# Altium schematic symbol library Schlib1.SchLib: 31 symbols
Pins are listed as number, name and electrical type; pins without a type are passive.

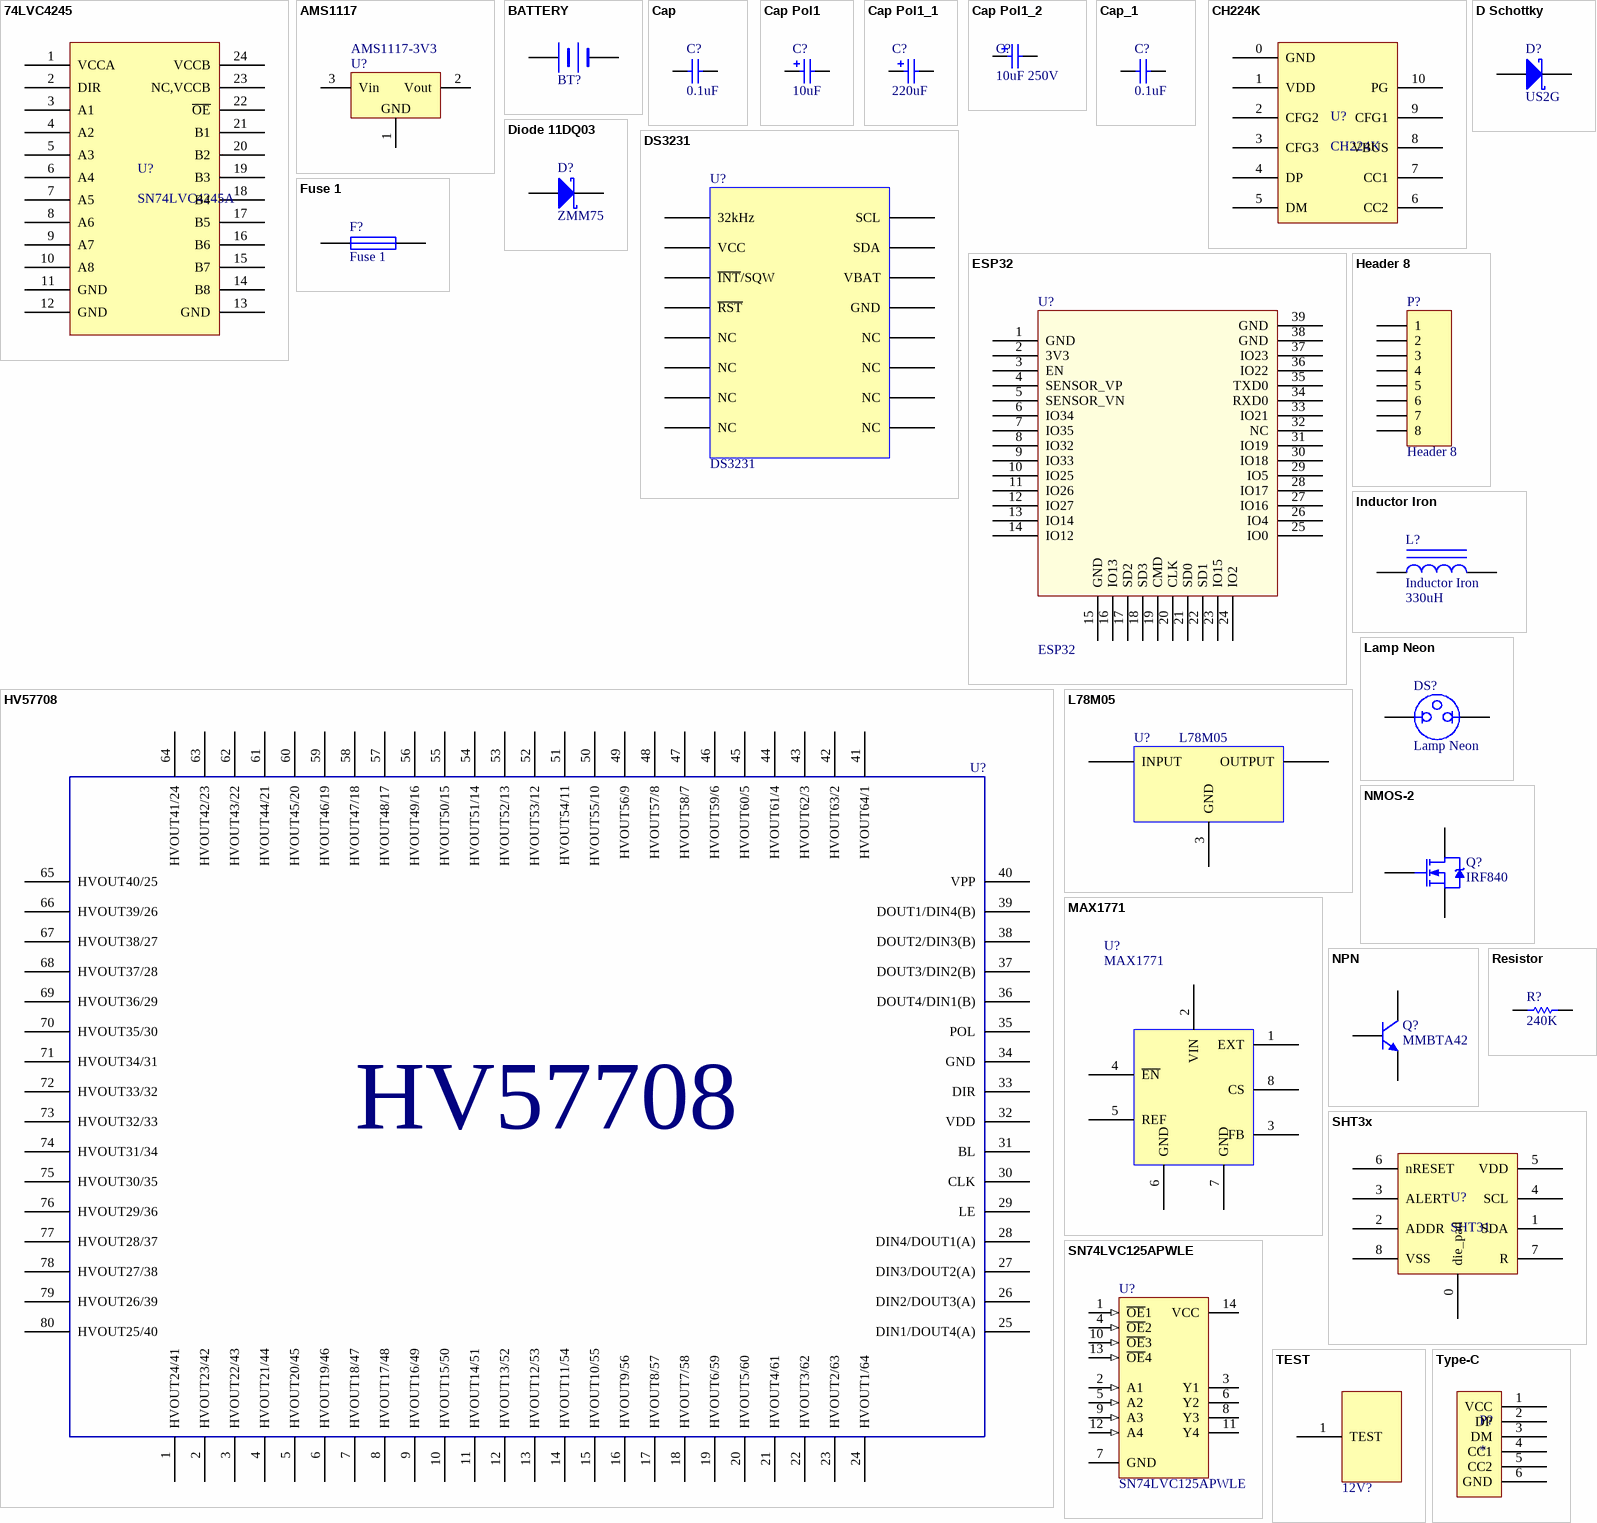
[diagram p0: symbols 74LVC4245 to Type-C]

## 74LVC4245
designator U?, comment SN74LVC4245A
双向电平转换
footprint TSSOP24_N (7.8*6.4*1mm（长宽高）   封装库来自淘宝卖家 ID：黄晶宝石)
pins: 1 VCCA, 2 DIR, 3 A1, 4 A2, 5 A3, 6 A4, 7 A5, 8 A6, 9 A7, 10 A8, 11 GND, 12 GND, 13 GND, 14 B8, 15 B7, 16 B6, 17 B5, 18 B4, 19 B3, 20 B2, 21 B1, 22 ~{OE}, 23 NC,VCCB, 24 VCCB

## AMS1117
designator U?, comment AMS1117-3V3
三端稳压芯片; BOM名称: 稳压芯片; 版权归属: 源创客; 学习资源: www.ooocke.com
footprint SOT223_L (6.4x7x1.6mm(长宽高))
footprint SOT223_M (6.4x7x1.6mm(长宽高))
footprint SOT223_N (6.4x7x1.6mm(长宽高))
footprint SOT89_L (4.6x4.3x1.6mm(长宽高))
footprint SOT89_N (4.6x4.3x1.6mm(长宽高))
footprint SOT89_M (4.6x4.3x1.6mm(长宽高))
pins: 1 GND, 2 Vout, 3 Vin

## BATTERY
designator BT?, comment CR1220 holder  (value not drawn)
footprint BAT1220
pins: 1 +, 2 -
2 alternate drawings of the same symbol

## Cap
designator C?  value 0.1uF  (hidden comment: Cap)
Capacitor; Published: 8-Jun-2000; LatestRevisionDate: 17-Jul-2002; LatestRevisionNote: Re-released for DXP Platform.; PackageReference: RAD-0.3; Publisher: Altium Limited; PackageDescription: Radial Cap, Thru-Hole; 2 Leads; 0.3 in Pin Spacing
footprint C 0805_L (无极性贴片电容                                        淘宝ID:黄晶宝石)
pins: 1, 2

## Cap Pol1
designator C?  value 10uF  (hidden comment: Cap Pol1)
Polarized Capacitor (Radial); Published: 8-Jun-2000; LatestRevisionDate: 17-Jul-2002; LatestRevisionNote: Re-released for DXP Platform.; PackageReference: RB7.6-15; Publisher: Altium Limited
footprint C0603 (Chip Resistor; Body 1.6 x 0.8 mm (LxW typ))
footprint TC3216-1206 (Capacitor, SM Tantalum; Body 3.2 x 1.6 mm (LxW typ))
footprint TC3216-1206 (Capacitor, SM Tantalum; Body 3.2 x 1.6 mm (LxW typ))
footprint C0805 (Chip Resistor; Body 2.0 x 1.3 mm (LxW typ))
footprint C3216
footprint C
pins: 1, 2
1 alternate drawing of the same symbol

## Cap Pol1_1
designator C?, comment value 220uF  (hidden comment: Cap Pol1)
Polarized Capacitor (Radial); Voltage: 16V; Published: 8-Jun-2000; LatestRevisionDate: 17-Jul-2002; LatestRevisionNote: Re-released for DXP Platform.; PackageReference: RB7.6-15; Publisher: Altium Limited; PackageDescription: Polarized Capacitor (Radial); 2 Leads
footprint HONOR_63X77
simulation model CAP (Capacitor)
signal-integrity model Cap Pol
pins: 1, 2
1 alternate drawing of the same symbol

## Cap Pol1_2
designator C?, comment value 10uF 250V  (hidden comment: Cap Pol1)
Polarized Capacitor (Radial); Published: 8-Jun-2000; LatestRevisionDate: 17-Jul-2002; LatestRevisionNote: Re-released for DXP Platform.; PackageReference: RB7.6-15; Publisher: Altium Limited; PackageDescription: Polarized Capacitor (Radial); 2 Leads
footprint C10*10.2
simulation model CAP (Capacitor)
signal-integrity model Cap Pol
pins: 1, 2
1 alternate drawing of the same symbol

## Cap_1
designator C?, comment value 0.1uF  (hidden comment: Cap)
Capacitor; Published: 8-Jun-2000; LatestRevisionDate: 17-Jul-2002; LatestRevisionNote: Re-released for DXP Platform.; PackageReference: RAD-0.3; Publisher: Altium Limited; PackageDescription: Radial Cap, Thru-Hole; 2 Leads; 0.3 in Pin Spacing
footprint C 0805_L (无极性贴片电容                                        淘宝ID:黄晶宝石)
simulation model CAP (Capacitor)
signal-integrity model Cap
footprint 0805 (1/8W)
footprint CAPC1608N (Chip Capacitor, Body 1.6x0.8mm, IPC Medium Density)
pins: 1, 2

## CH224K
designator U?
PD协议受电芯片
pins: 0 GND, 1 VDD, 2 CFG2, 3 CFG3, 4 DP, 5 DM, 6 CC2, 7 CC1, 8 VBUS, 9 CFG1, 10 PG

## D Schottky
designator D?, comment US2G
Schottky Diode; Published: 8-Jun-2000; LatestRevisionDate: 17-Jul-2002; LatestRevisionNote: Re-released for DXP Platform.; PackageReference: SMB; Publisher: Altium Limited; PackageDescription: DO-214-AA/SMB; 2 C-Bend Leads; Body 5.3 x 3.6 mm, inc. leads (LxW); Code_JEDEC: DO-214-AA
simulation model SKYDIODE (Diode)
signal-integrity model D Schottky
footprint SMA (4.5x2.6*2.2mm（长宽高，不包括引脚）)
pins: 1 A, 2 K

## Diode 11DQ03
designator D?, comment ZMM75
Schottky Rectifier; Published: 8-Jun-2000; LatestRevisionDate: 17-Jul-2002; LatestRevisionNote: Re-released for DXP Platform.; DatasheetVersion: Dec-1997; PackageReference: DO-204AL; Publisher: Altium Limited; PackageDescription: Diode, Axial; Body 5.2 x 2.7 mm (LxDia. max), Lead Dia. 0.86 mm (max); Code_JEDEC: DO-204-AL; ComponentLink1Description: Manufacturer Link; ComponentLink1URL: http://www.irf.com/; ComponentLink2Description: Datasheet; ComponentLink2URL: http://www.irf.com/product-info/datasheets/data/11dq03.pdf
footprint LL-34
pins: 1 A, 2 K

## DS3231
designator U?
footprint SOP16_75MM
pins: 1 32kHz, 2 VCC, 3 ~{INT}/SQW, 4 ~{RST}, 5 NC, 6 NC, 7 NC, 8 NC, 9 NC, 10 NC, 11 NC, 12 NC, 13 GND, 14 VBAT, 15 SDA, 16 SCL

## ESP32
designator U?
footprint ESP32
pins: 1 GND, 2 3V3, 3 EN, 4 SENSOR_VP, 5 SENSOR_VN, 6 IO34, 7 IO35, 8 IO32, 9 IO33, 10 IO25, 11 IO26, 12 IO27, 13 IO14, 14 IO12, 15 GND, 16 IO13, 17 SD2, 18 SD3, 19 CMD, 20 CLK, 21 SD0, 22 SD1, 23 IO15, 24 IO2, 25 IO0, 26 IO4, 27 IO16, 28 IO17, 29 IO5, 30 IO18, 31 IO19, 32 NC, 33 IO21, 34 RXD0, 35 TXD0, 36 IO22, 37 IO23, 38 GND, 39 GND

## Fuse 1
designator F?
Fuse; Published: 8-Jun-2000; LatestRevisionDate: 17-Jul-2002; LatestRevisionNote: Re-released for DXP Platform.; PackageReference: PIN-W2/E2.8; Publisher: Altium Limited; PackageDescription: Thru-Hole; 2 Leads
footprint SMD2018P100TF
simulation model FUSE (Spice Subcircuit)
pins: 1, 2

## Header 8
designator P?
Header, 8-Pin; LatestRevisionDate: 17-Jul-2002; LatestRevisionNote: Re-released for DXP Platform.; Publisher: Altium Limited
footprint SIP8
signal-integrity model Connector
pins: 1, 2, 3, 4, 5, 6, 7, 8

## HV57708
designator U?  (value not drawn)
footprint HV57708PG (QFP, 80-Leads, Body 17.40x23.40mm, Pitch 0.80mm, IPC Medium Density)
footprint HV57708PG (QFP, 80-Leads, Body 17.40x23.40mm, Pitch 0.80mm, IPC Medium Density)
pins: 1 HVOUT24/41, 2 HVOUT23/42, 3 HVOUT22/43, 4 HVOUT21/44, 5 HVOUT20/45, 6 HVOUT19/46, 7 HVOUT18/47, 8 HVOUT17/48, 9 HVOUT16/49, 10 HVOUT15/50, 11 HVOUT14/51, 12 HVOUT13/52, 13 HVOUT12/53, 14 HVOUT11/54, 15 HVOUT10/55, 16 HVOUT9/56, 17 HVOUT8/57, 18 HVOUT7/58, 19 HVOUT6/59, 20 HVOUT5/60, 21 HVOUT4/61, 22 HVOUT3/62, 23 HVOUT2/63, 24 HVOUT1/64, 25 DIN1/DOUT4(A), 26 DIN2/DOUT3(A), 27 DIN3/DOUT2(A), 28 DIN4/DOUT1(A), 29 LE, 30 CLK, 31 BL, 32 VDD, 33 DIR, 34 GND, 35 POL, 36 DOUT4/DIN1(B), 37 DOUT3/DIN2(B), 38 DOUT2/DIN3(B), 39 DOUT1/DIN4(B), 40 VPP, 41 HVOUT64/1, 42 HVOUT63/2, 43 HVOUT62/3, 44 HVOUT61/4, 45 HVOUT60/5, 46 HVOUT59/6, 47 HVOUT58/7, 48 HVOUT57/8, 49 HVOUT56/9, 50 HVOUT55/10, 51 HVOUT54/11, 52 HVOUT53/12, 53 HVOUT52/13, 54 HVOUT51/14, 55 HVOUT50/15, 56 HVOUT49/16, 57 HVOUT48/17, 58 HVOUT47/18, 59 HVOUT46/19, 60 HVOUT45/20, 61 HVOUT44/21, 62 HVOUT43/22, 63 HVOUT42/23, 64 HVOUT41/24, 65 HVOUT40/25, 66 HVOUT39/26, 67 HVOUT38/27, 68 HVOUT37/28, 69 HVOUT36/29, 70 HVOUT35/30, 71 HVOUT34/31, 72 HVOUT33/32, 73 HVOUT32/33, 74 HVOUT31/34, 75 HVOUT30/35, 76 HVOUT29/36, 77 HVOUT28/37, 78 HVOUT27/38, 79 HVOUT26/39, 80 HVOUT25/40

## Inductor Iron
designator L?  value 330uH
Magnetic-Core Inductor; Published: 24-Mar-1999; LatestRevisionDate: 17-Jul-2002; LatestRevisionNote: Re-released for DXP Platform.; PackageReference: AXIAL-0.9; Publisher: Altium Limited; PackageDescription: Axial Device, Thru-Hole; 2 Leads; 0.9 in Pin Spacing
footprint GDRH127
simulation model INDUCTOR (Inductor)
signal-integrity model Inductor Iron
pins: 1, 2

## L78M05
designator U?
footprint TO-252-2L
pins: 1 INPUT, 2 OUTPUT, 3 GND

## Lamp Neon
designator DS?
Neon Lamp; Published: 24-Mar-1999; LatestRevisionDate: 17-Jul-2002; LatestRevisionNote: Re-released for DXP Platform.; PackageReference: PIN2; Publisher: Altium Limited
footprint PIN2 (Photosensitive Diode; 2 Leads)
pins: 1, 2

## MAX1771
designator U?
footprint SOIC8
pins: 1 EXT, 2 VIN, 3 FB, 4 ~{EN}, 5 REF, 6 GND, 7 GND, 8 CS

## NMOS-2
designator Q?, comment IRF840
N-Channel Power MOSFET; Note: Pin 2 is electrically connected to pin 4.; Published: 8-Jun-2000; LatestRevisionDate: 17-Jul-2002; LatestRevisionNote: Re-released for DXP Platform.; DatasheetVersion: PD-9.814; PackageVersion: Feb-1997; PackageReference: TO-220AB; Publisher: Altium Limited; PackageDescription: TO, Thru-Hole, Vertical, Heatsink Mounted; 3 In-Line Leads; Pitch 2.54 mm; ComponentLink1Description: Manufacturer Link; ComponentLink1URL: http://www.irf.com/
footprint TO-263-2L
simulation model IRF1010 (Spice Subcircuit)
pins: 1 G, 2 D, 3 S

## NPN
designator Q?, comment MMBTA42
NPN Bipolar Transistor; Published: 8-Jun-2000; LatestRevisionDate: 17-Jul-2002; LatestRevisionNote: Re-released for DXP Platform.; PackageReference: TO-226; Publisher: Altium Limited; Code_JEDEC: TO-226-AA
footprint SOT-23-3L
footprint TO-92 (TO, Flat Index; 3 In-Line, Axial Leads; Body Dia. 4.5mm; Leads 0.51 x 0.48 mm (max))
pins: 1 B, 2 E, 3 C

## Resistor
designator R?  value 240K  (hidden comment: Resistor)
Published: 8-Jun-2000; LatestRevisionDate: 17-Jul-2002; LatestRevisionNote: Re-released for DXP Platform.; PackageReference: AXIAL-0.5; Publisher: Altium Limited
footprint R 0805_L (1/8W贴片电阻)
footprint RESC1608N (Chip Resistor, Body 1.6x0.8mm, IPC Medium Density)
footprint 0805 (1/8W)
pins: 1, 2

## SHT3x
designator U?, comment SHT31
Humidity and Temperature Sensor
footprint DFN-8 (2.5x2.5x0.5)
pins: 0 die_pad, 1 SDA, 2 ADDR, 3 ALERT, 4 SCL, 5 VDD, 6 nRESET, 7 R, 8 VSS

## SN74LVC125APWLE
designator U?
Quadruple Bus Buffer Gate with 3-State Outputs; ComponentAvailability: Obsolete; Published: 8-Jun-2000; LatestRevisionDate: 16-Oct-2006; LatestRevisionNote: IPC-7351 Footprint Added.; DatasheetVersion: Jun-1998; PackageVersion: Feb-1999; PackageReference: PW014; Publisher: Altium Limited; PackageDescription: 14-Pin Thin Small Outline Package 0.65 mm Pitch; ComponentLink1Description: Manufacturer Link; ComponentLink1URL: http://www.ti.com/; ComponentLink2Description: Datasheet; ComponentLink2URL: http://www-s.ti.com/sc/ds/sn74lvc125a.pdf
footprint PW014_N (TSOP, 14-Leads, Body 5x4.4mm, Pitch 0.65mm, IPC Medium Density)
footprint PW014_L (TSOP, 14-Leads, Body 5x4.4mm, Pitch 0.65mm, IPC High Density)
footprint PW014_M (TSOP, 14-Leads, Body 5x4.4mm, Pitch 0.65mm, IPC Low Density)
3D model PW014 (14-Pin Thin Small Outline Package 0.65 mm Pitch)
signal-integrity model SN74LVC125APWLE
pins: 1 ~{OE}1 (in), 2 A1 (in), 3 Y1 (hiz), 4 ~{OE}2 (in), 5 A2 (in), 6 Y2 (hiz), 7 GND (power), 8 Y3 (hiz), 9 A3 (in), 10 ~{OE}3 (in), 11 Y4 (hiz), 12 A4 (in), 13 ~{OE}4 (in), 14 VCC (power)

## TEST
designator 12V?  (value not drawn)
footprint TEST
pins: 1 TEST

## Type-C
designator P?
Type-C 接口
footprint USB-C-SMD_10P-P1.00-L6.8-W8.9
pins: 1 VCC, 2 DP, 3 DM, 4 CC1, 5 CC2, 6 GND

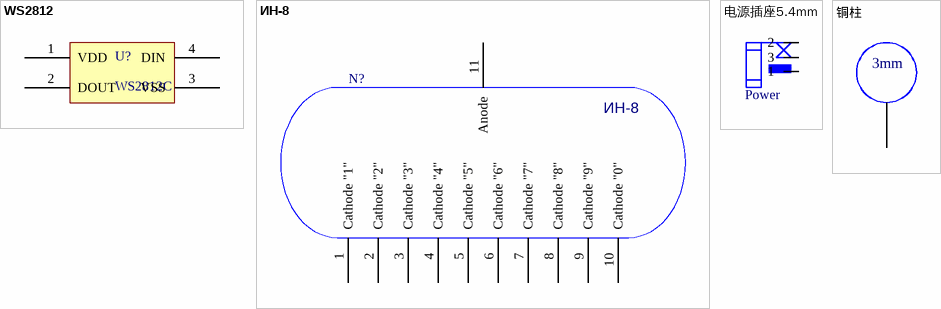
[diagram p1: symbols WS2812 to 铜柱]

## WS2812
designator U?, comment WS2812C
RGB发光管
footprint WS2812
pins: 1 VDD, 2 DOUT, 3 VSS, 4 DIN

## ИН-8
designator N?  (value not drawn)
footprint IN14
pins: 1 Cathode "1", 2 Cathode "2", 3 Cathode "3", 4 Cathode "4", 5 Cathode "5", 6 Cathode "6", 7 Cathode "7", 8 Cathode "8", 9 Cathode "9", 10 Cathode "0", 11 Anode

## 电源插座5.4mm
designator DC?, comment Power
footprint DC-5mm贴片
pins: 1, 2, 3

## 铜柱
designator T?  (value not drawn)
footprint 螺丝孔-3mm
pins: 1
text: 3mm